# EAGLE library part FT232HL-REEL (library FT232HL-REEL)
Ic, Interface; Usb Hi-Speed To Uart/Fifo/Spi/Jtag, I2c; 1.8v-5.25v; 25ma; Lqfp-48
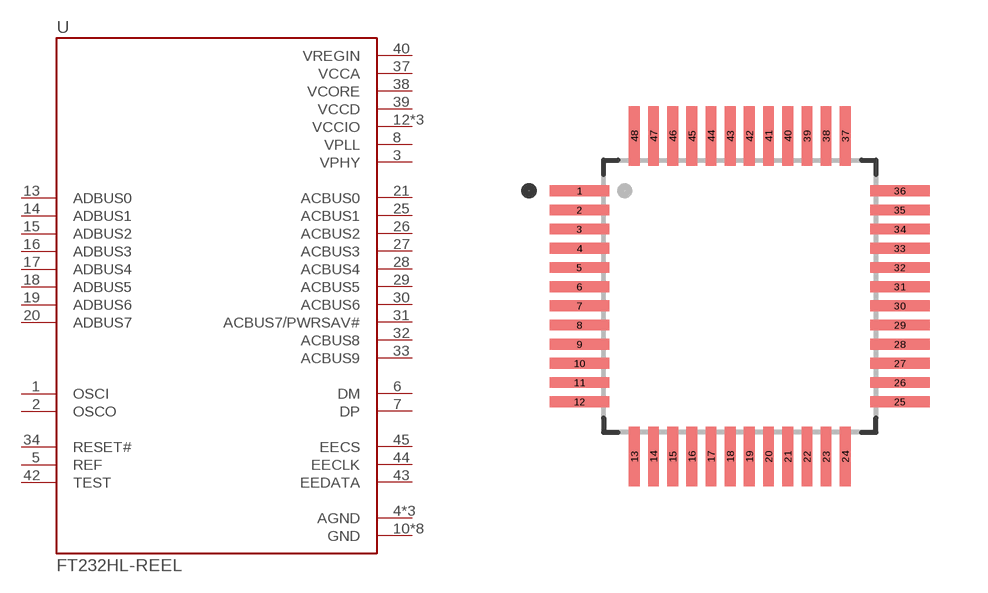
[diagram p0: symbol with the pads of QFP50P900X900X160-48N; footprint QFP50P900X900X160-48N]

Designator prefix U

## FT232HL-REEL (Availability: Unavailable; Description: Lqfp48; MF: FTDI, Future; MP: FT232HL; Package: LQFP-48 FTDI; Price: None)  [QFP50P900X900X160-48N]
1  OSCI  in
2  OSCO  out
3  VPHY  pwr
4  AGND  pwr
5  REF  in
6  DM
7  DP
8  VPLL  pwr
9  AGND  pwr
10  GND  pwr
11  GND  pwr
12  VCCIO  pwr
13  ADBUS0
14  ADBUS1
15  ADBUS2
16  ADBUS3
17  ADBUS4
18  ADBUS5
19  ADBUS6
20  ADBUS7
21  ACBUS0
22  GND  pwr
23  GND  pwr
24  VCCIO  pwr
25  ACBUS1
26  ACBUS2
27  ACBUS3
28  ACBUS4
29  ACBUS5
30  ACBUS6
31  ACBUS7/PWRSAV#
32  ACBUS8
33  ACBUS9
34  RESET#  in
35  GND  pwr
36  GND  pwr
37  VCCA  pwr
38  VCORE  pwr
39  VCCD  pwr
40  VREGIN  pwr
41  AGND  pwr
42  TEST  in
43  EEDATA
44  EECLK  out
45  EECS
46  VCCIO  pwr
47  GND  pwr
48  GND  pwr

## Footprint QFP50P900X900X160-48N (pad centres in mm)
smd 1.56 x 0.28: 1 -4.18,2.75; 2 -4.18,2.25; 3 -4.18,1.75; 4 -4.18,1.25; 5 -4.18,0.75; 6 -4.18,0.25; 7 -4.18,-0.25; 8 -4.18,-0.75; 9 -4.18,-1.25; 10 -4.18,-1.75; 11 -4.18,-2.25; 12 -4.18,-2.75; 25 4.18,-2.75; 26 4.18,-2.25; 27 4.18,-1.75; 28 4.18,-1.25; 29 4.18,-0.75; 30 4.18,-0.25; 31 4.18,0.25; 32 4.18,0.75; 33 4.18,1.25; 34 4.18,1.75; 35 4.18,2.25; 36 4.18,2.75
smd 0.28 x 1.56: 13 -2.75,-4.18; 14 -2.25,-4.18; 15 -1.75,-4.18; 16 -1.25,-4.18; 17 -0.75,-4.18; 18 -0.25,-4.18; 19 0.25,-4.18; 20 0.75,-4.18; 21 1.25,-4.18; 22 1.75,-4.18; 23 2.25,-4.18; 24 2.75,-4.18; 37 2.75,4.18; 38 2.25,4.18; 39 1.75,4.18; 40 1.25,4.18; 41 0.75,4.18; 42 0.25,4.18; 43 -0.25,4.18; 44 -0.75,4.18; 45 -1.25,4.18; 46 -1.75,4.18; 47 -2.25,4.18; 48 -2.75,4.18